# Altium schematic symbol library SPST_Switch.SchLib: 1 symbol
Pins are listed as number, name and electrical type; pins without a type are passive.

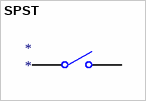
[diagram p0: symbol SPST]

## SPST
designator *
pins: 1 COMMON, 2 NO